# Altium footprint library SRN6045-100M-Footprint-1.PcbLib: 1 footprints
Each footprint in its own frame and in the unit in brackets; x right, y up, seen from the top. Pads: shape width x height; smd on the part's side, far side on the other; paste and mask are expansions set on the pad; w line width, h text height; cw(c..) or ccw(c..) is an arc to the next point about the centre after c.
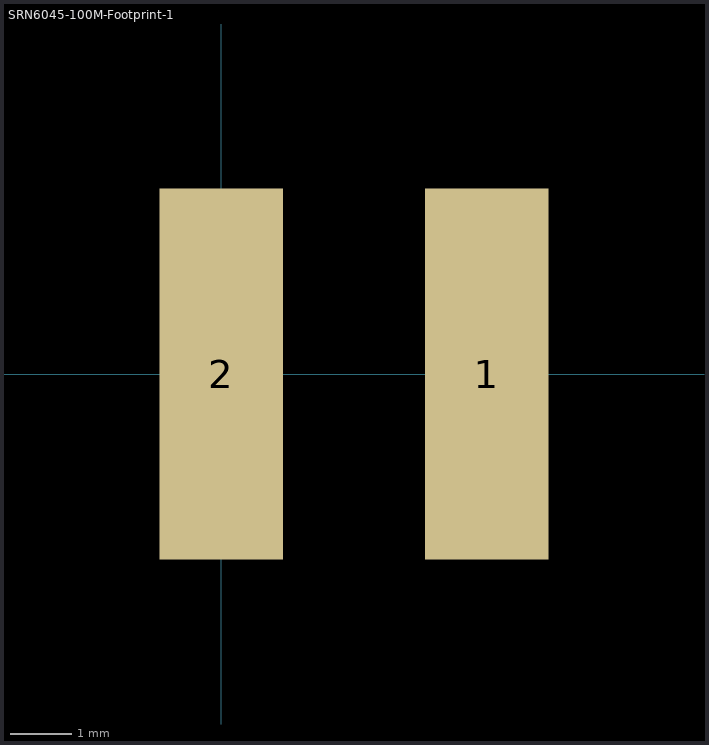
[diagram p0: the footprint, top view; thin cyan lines are the x and y axes]

## SRN6045-100M-Footprint-1 [mm]
pads (2):
  rect 2x6 smd mask+0.07: 1(4.3,0) 2(0,0)
3D body "srn6045.stp": height 4.5, standoff 0, extent -0.9,-3 5.1,3